# EAGLE library part M25P20_SPI_FLASH (library DAC)
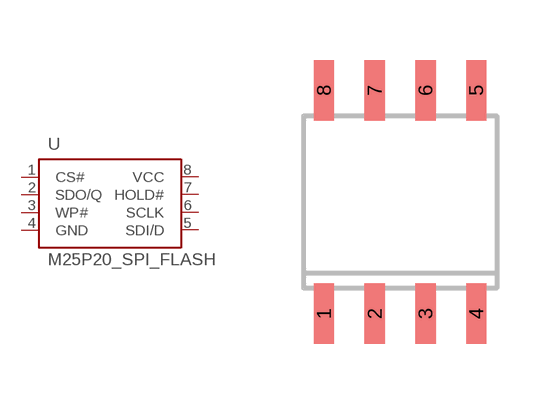
[diagram p1: symbol with the pads of M25P20_SPI_FLASH; footprint M25P20_SPI_FLASH]

Designator prefix U

## M25P20_SPI_FLASH  [M25P20_SPI_FLASH]
1  CS#
2  SDO/Q  out
3  WP#  in
4  GND  pwr
5  SDI/D  in
6  SCLK  in
7  HOLD#
8  VCC  pwr

## Footprint M25P20_SPI_FLASH (pad centres in mm)
smd 0.508 x 1.524: 1 -1.905,-2.921; 2 -0.635,-2.921; 3 0.635,-2.921; 4 1.905,-2.921; 5 1.905,2.667; 6 0.635,2.667; 7 -0.635,2.667; 8 -1.905,2.667